# Altium schematic symbol library TC1508S.SchLib: 1 symbol
Pins are listed as number, name and electrical type; pins without a type are passive.

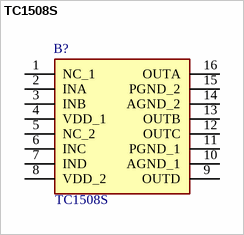
[diagram p0: symbol TC1508S]

## TC1508S
designator B?
SOP-16_150mil Motor Driver ICs; Manufacturer_Name: Shenzhen Fuman Elec; Geometry.Height: 1.8mm; Manufacturer_Part_Number: TC1508S; Mouser Part Number: *; Mouser Price/Stock: *; Arrow Part Number: *; Arrow Price/Stock: *; Datasheet Link: https://datasheet.lcsc.com/szlcsc/2004010903_Shenzhen-Fuman-Elec-TC1508S_C89480.pdf
footprint SOIC127P600X180-16N
pins: 1 NC_1, 2 INA, 3 INB, 4 VDD_1, 5 NC_2, 6 INC, 7 IND, 8 VDD_2, 9 OUTD, 10 AGND_1, 11 PGND_1, 12 OUTC, 13 OUTB, 14 AGND_2, 15 PGND_2, 16 OUTA